# EAGLE library part ARDUINO_PRO_MINI (library bike_computer)
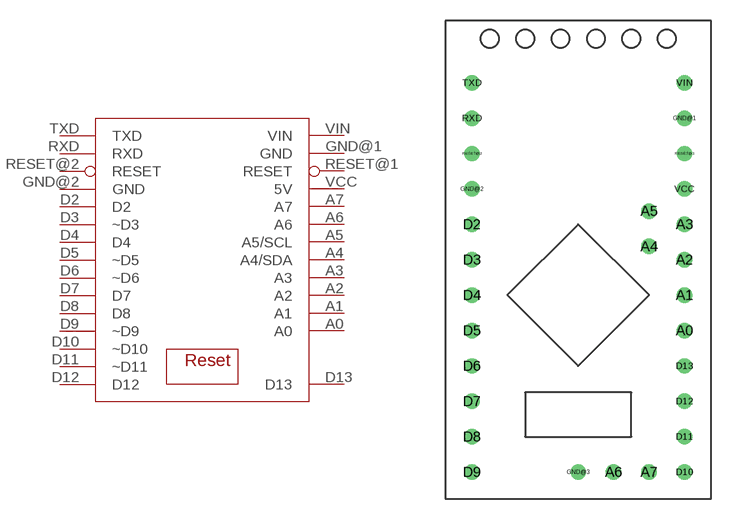
[diagram p1: symbol with the pads of ARDUINO_PRO_MINI; footprint ARDUINO_PRO_MINI]

Designator prefix -

## ARDUINO_PRO_MINI  [ARDUINO_PRO_MINI]
A0  A0
A1  A1
A2  A2
A3  A3
A4  A4/SDA
A5  A5/SCL
A6  A6
A7  A7
D2  D2
D3  ~D3
D4  D4
D5  ~D5
D6  ~D6
D7  D7
D8  D8
D9  ~D9
D10  ~D10
D11  ~D11
D12  D12
D13  D13
GND@1  GND
GND@2  GND
RESET@1  RESET
RESET@2  RESET
RXD  RXD
TXD  TXD
VCC  5V
VIN  VIN

## Footprint ARDUINO_PRO_MINI (pad centres in mm)
drill 0.6: A0 7.62,-5.08; A1 7.62,-2.54; A2 7.62,0; A3 7.62,2.54; A4 5.08,0.953; A5 5.08,3.493; A6 2.54,-15.24; A7 5.08,-15.24; D2 -7.62,2.54; D3 -7.62,0; D4 -7.62,-2.54; D5 -7.62,-5.08; D6 -7.62,-7.62; D7 -7.62,-10.16; D8 -7.62,-12.7; D9 -7.62,-15.24; D10 7.62,-15.24; D11 7.62,-12.7; D12 7.62,-10.16; D13 7.62,-7.62; GND@1 7.62,10.16; GND@2 -7.62,5.08; GND@3 0,-15.24; RESET@1 7.62,7.62; RESET@2 -7.62,7.62; RXD -7.62,10.16; TXD -7.62,12.7; VCC 7.62,5.08; VIN 7.62,12.7